# Altium footprint library Modular_Jack_Single_8P8C_Vertical.PcbLib: 1 footprints
Each footprint in its own frame and in the unit in brackets; x right, y up, seen from the top. Pads: shape width x height; smd on the part's side, far side on the other; paste and mask are expansions set on the pad; w line width, h text height; cw(c..) or ccw(c..) is an arc to the next point about the centre after c.
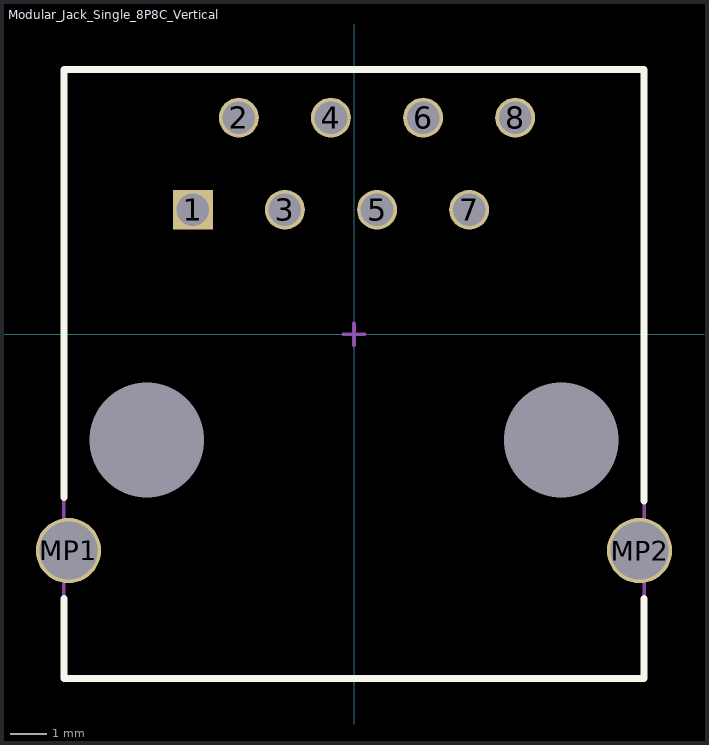
[diagram p0: the footprint, top view; thin cyan lines are the x and y axes]

## Modular_Jack_Single_8P8C_Vertical [mm] "Modular Jack, 8P8C, vertical, Front post, shielded"
height 16.4
pads (12):
  rect 1.1x1.1 hole 0.9: 1(-4.445,3.43)
  round 1.1 hole 0.9: 2(-3.175,5.97) 3(-1.905,3.43) 4(-0.635,5.97) 5(0.635,3.43) 6(1.905,5.97) 7(3.175,3.43) 8(4.445,5.97)
  round 1.8 hole 1.6: MP1(-7.875,-5.97) MP2(7.875,-5.97)
  rect 0x0 hole 3.17 unplated: TH1(-5.715,-2.92) TH2(5.715,-2.92)
Top Overlay:
  lines w0.2: -8,-7.3 -8,-9.5 8,-9.5 8,-7.3 ; -8,-4.5 -8,7.3 8,7.3 8,-4.6
Mechanical 15:
  lines w0.1: -0.3,0 0.3,0 ; 0,-0.3 0,0.3 ; -8,-9.5 -8,7.3 8,7.3 8,-9.5 -8,-9.5
3D body: height 16.83, standoff -3.62, extent -8,-9.525 8,7.125